# Altium footprint library WANGYU92100PcbLib.PcbLib: 392 footprints (part 1 of 25)
Each footprint in its own frame and in the unit in brackets; x right, y up, seen from the top. Pads: shape width x height; smd on the part's side, far side on the other; paste and mask are expansions set on the pad; w line width, h text height; cw(c..) or ccw(c..) is an arc to the next point about the centre after c.
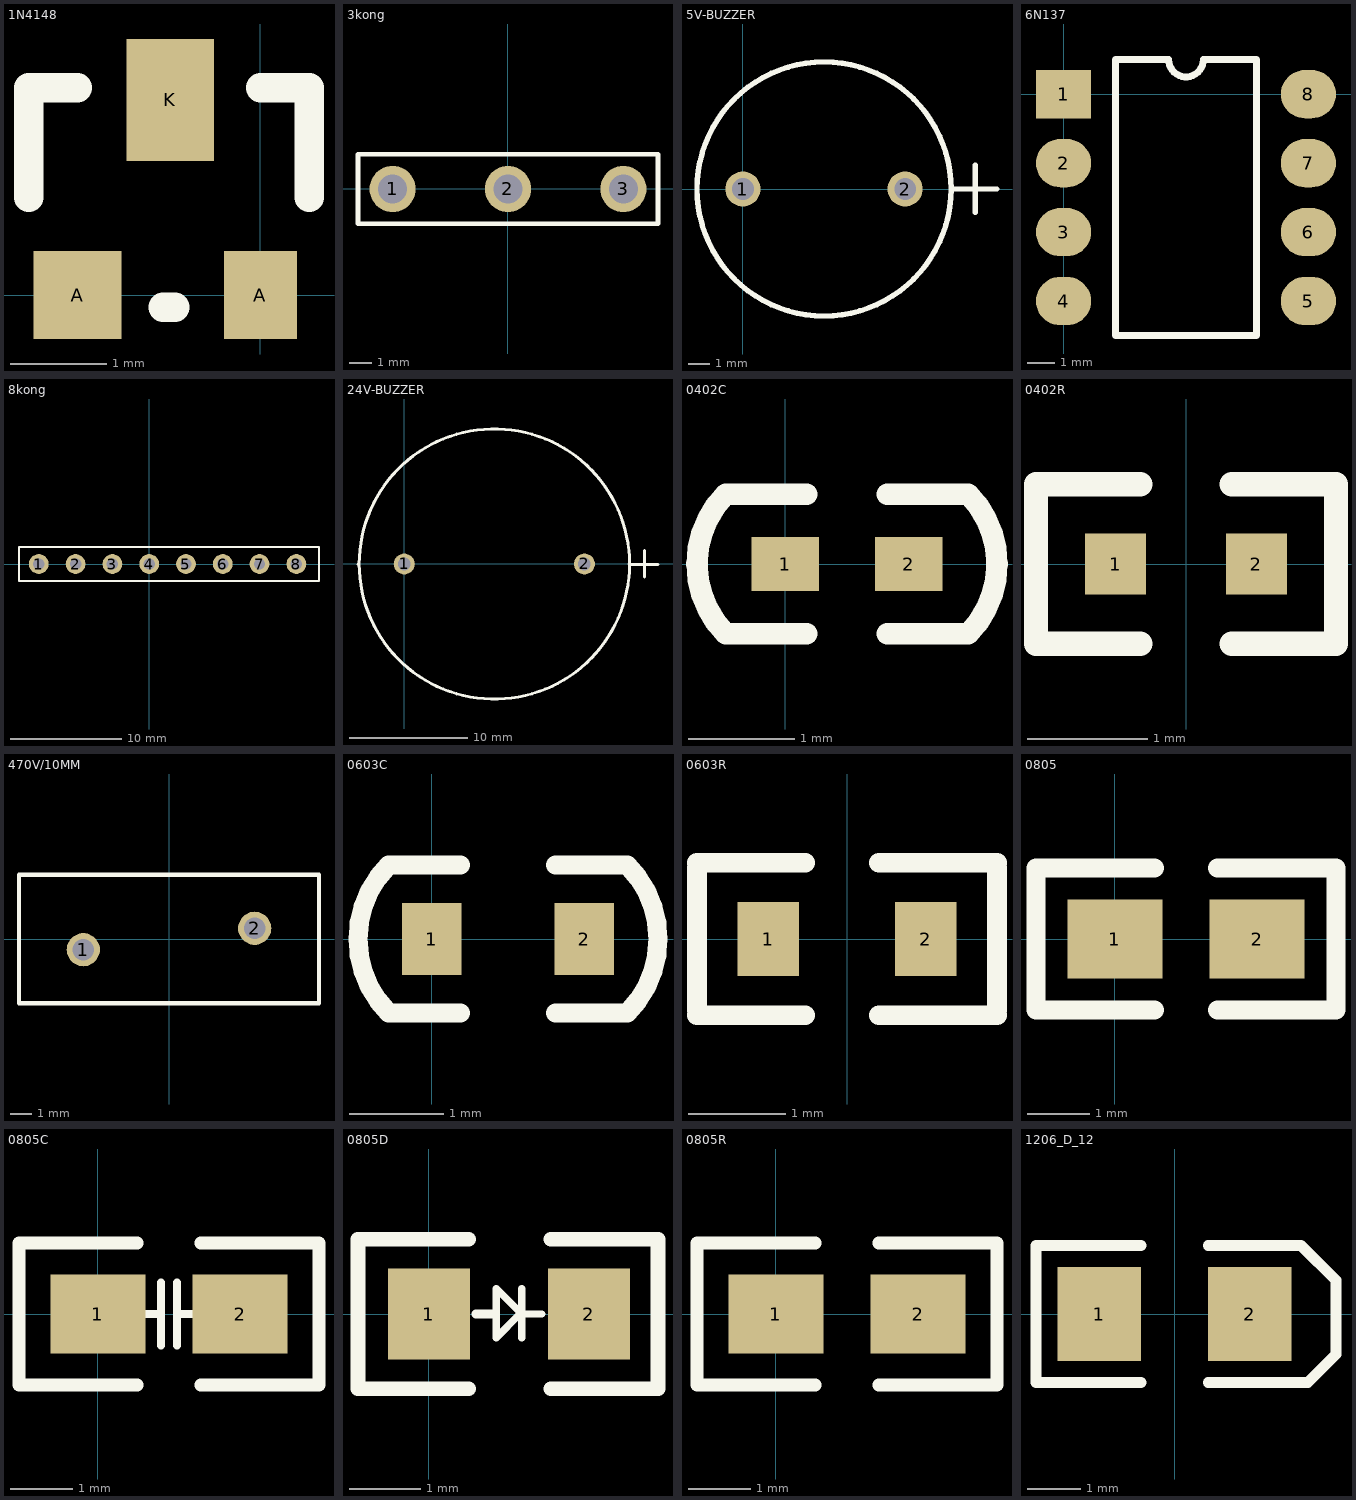
[diagram p0: the footprints below, top view; thin cyan lines are the x and y axes]

## 1N4148 [mil]
pads (3):
  rect 36x36 smd: A(-75,0)
  rect 30x36 smd: A(0,0)
  rect 36x50 smd: K(-37,80)
Top Overlay:
  lines w12: -95,40 -95,85 -75,85 ; -40,-5 -35,-5 ; 0,85 20,85 20,40

## 3kong [mil]
pads (3):
  round 80 hole 50: 1(-200,0) 2(0,0) 3(200,0)
Top Overlay:
  lines w8: -260,-60 -260,60 260,60 260,-60 -260,-60

## 5V-BUZZER [mil]
pads (2):
  round 65 hole 40: 1(0,0) 2(300,0)
Top Overlay:
  circle w10: c150,0 r235
  lines w10: 385,0 470,0 ; 430,-43 430,44

## 6N137 [mil]
pads (8):
  rect 80x70 smd: 1(0,0)
  oval 80x70 smd: 2(0,-100) 3(0,-200) 4(0,-300) 5(355,-300) 6(355,-200) 7(355,-100) 8(355,0)
Top Overlay:
  lines w10: 75,-350 75,50 152.5,50 ccw(c177.5,50) 202.5,50 280,50 280,-350 75,-350

## 8kong [mil]
pads (8):
  round 70 hole 40: 1(-390,0) 2(-260,0) 3(-130,0) 4(0,0) 5(130,0) 6(260,0) 7(390,0) 8(520,0)
Top Overlay:
  lines w8: -460,-60 580,-60 600,-60 600,60 -460,60 -460,-60

## 24V-BUZZER [mil]
pads (2):
  round 70 hole 42: 1(0,0) 2(600,0)
Top Overlay:
  circle w10: c300,0 r450
  lines w10: -154,-1 -151,2 ; 749,0 750,-1 845,-1 ; 800,-43 800,45

## 0402C [mil]
pads (2):
  rect 25x20 smd: 1(0,0) 2(46,0)
Top Overlay:
  lines w8: 8,-26 -22,-26 cw(c4,0) -22,26 8,26 ; 38,-26 68,-26 ccw(c42,0) 68,26 38,26

## 0402R [mil]
pads (2):
  rect 20x20 smd: 1(-23,0) 2(23,0)
Top Overlay:
  lines w8: -15,-26 -49,-26 -49,26 -15,26 ; 15,-26 49,-26 49,26 15,26

## 470V/10MM [mm]
pads (2):
  round 1.55 hole 1: 1(-4,-0.5) 2(4,0.5)
Top Overlay:
  lines w0.203: -7,-3 7,-3 7,3 -7,3 -7,-3

## 0603C [mil]
pads (2):
  rect 25x30 smd: 1(0,0) 2(64,0)
Top Overlay:
  lines w8: 12,-31 -18,-31 cw(c13,0) -18,31 12,31 ; 52,-31 82,-31 ccw(c51,0) 82,31 52,31

## 0603R [mil]
pads (2):
  rect 25x30 smd: 1(-32,0) 2(32,0)
Top Overlay:
  lines w8: -61,-31 -17,-31 ; -61,-29 -61,29 ; -61,31 -17,31 ; 13,-31 61,-31 ; 13,31 61,31 ; 61,-29 61,29

## 0805 [mil]
pads (2):
  rect 60x50 smd: 1(0,0) 2(90,0)
Top Overlay:
  lines w12: 25,-45 -50,-45 -50,45 25,45 ; 65,-45 140,-45 140,45 65,45

## 0805C [mil]
pads (2):
  rect 60x50 smd: 1(0,0) 2(90,0)
Top Overlay:
  lines w5: 30,0 40,0 ; 40,-20 40,20 ; 50,-20 50,20 ; 50,0 60,0
  lines w8: 25,-45 -50,-45 -50,45 25,45 ; 65,-45 140,-45 140,45 65,45

## 0805D [mil]
pads (2):
  rect 45x50 smd: 1(0,0) 2(88,0)
Top Overlay:
  lines w4: 51,-13 51,14 ; 62,0 51,0 ; 51,0 37,14 37,-13 50,0 51,0
  lines w5: 26,0 36,0
  lines w8: 22,-41 -39,-41 -39,41 22,41 ; 67,-41 126,-41 126,41 67,41

## 0805R [mil]
pads (2):
  rect 60x50 smd: 1(0,0) 2(90,0)
Top Overlay:
  lines w8: 25,-45 -50,-45 -50,45 25,45 ; 65,-45 140,-45 140,45 65,45

## 1206_D_12 [mil]
pads (2):
  rect 62x70 smd: 1(-56,0) 2(56,0)
Top Overlay:
  lines w8: -25,-51 -103,-51 -103,51 -25,51 ; 25,-51 99,-51 120,-30 120,25 94,51 25,51